# Altium footprint library DXPpcb.PCBLIB: 575 footprints (part 36 of 36)
Each footprint in its own frame and in the unit in brackets; x right, y up, seen from the top. Pads: shape width x height; smd on the part's side, far side on the other; paste and mask are expansions set on the pad; w line width, h text height; cw(c..) or ccw(c..) is an arc to the next point about the centre after c.
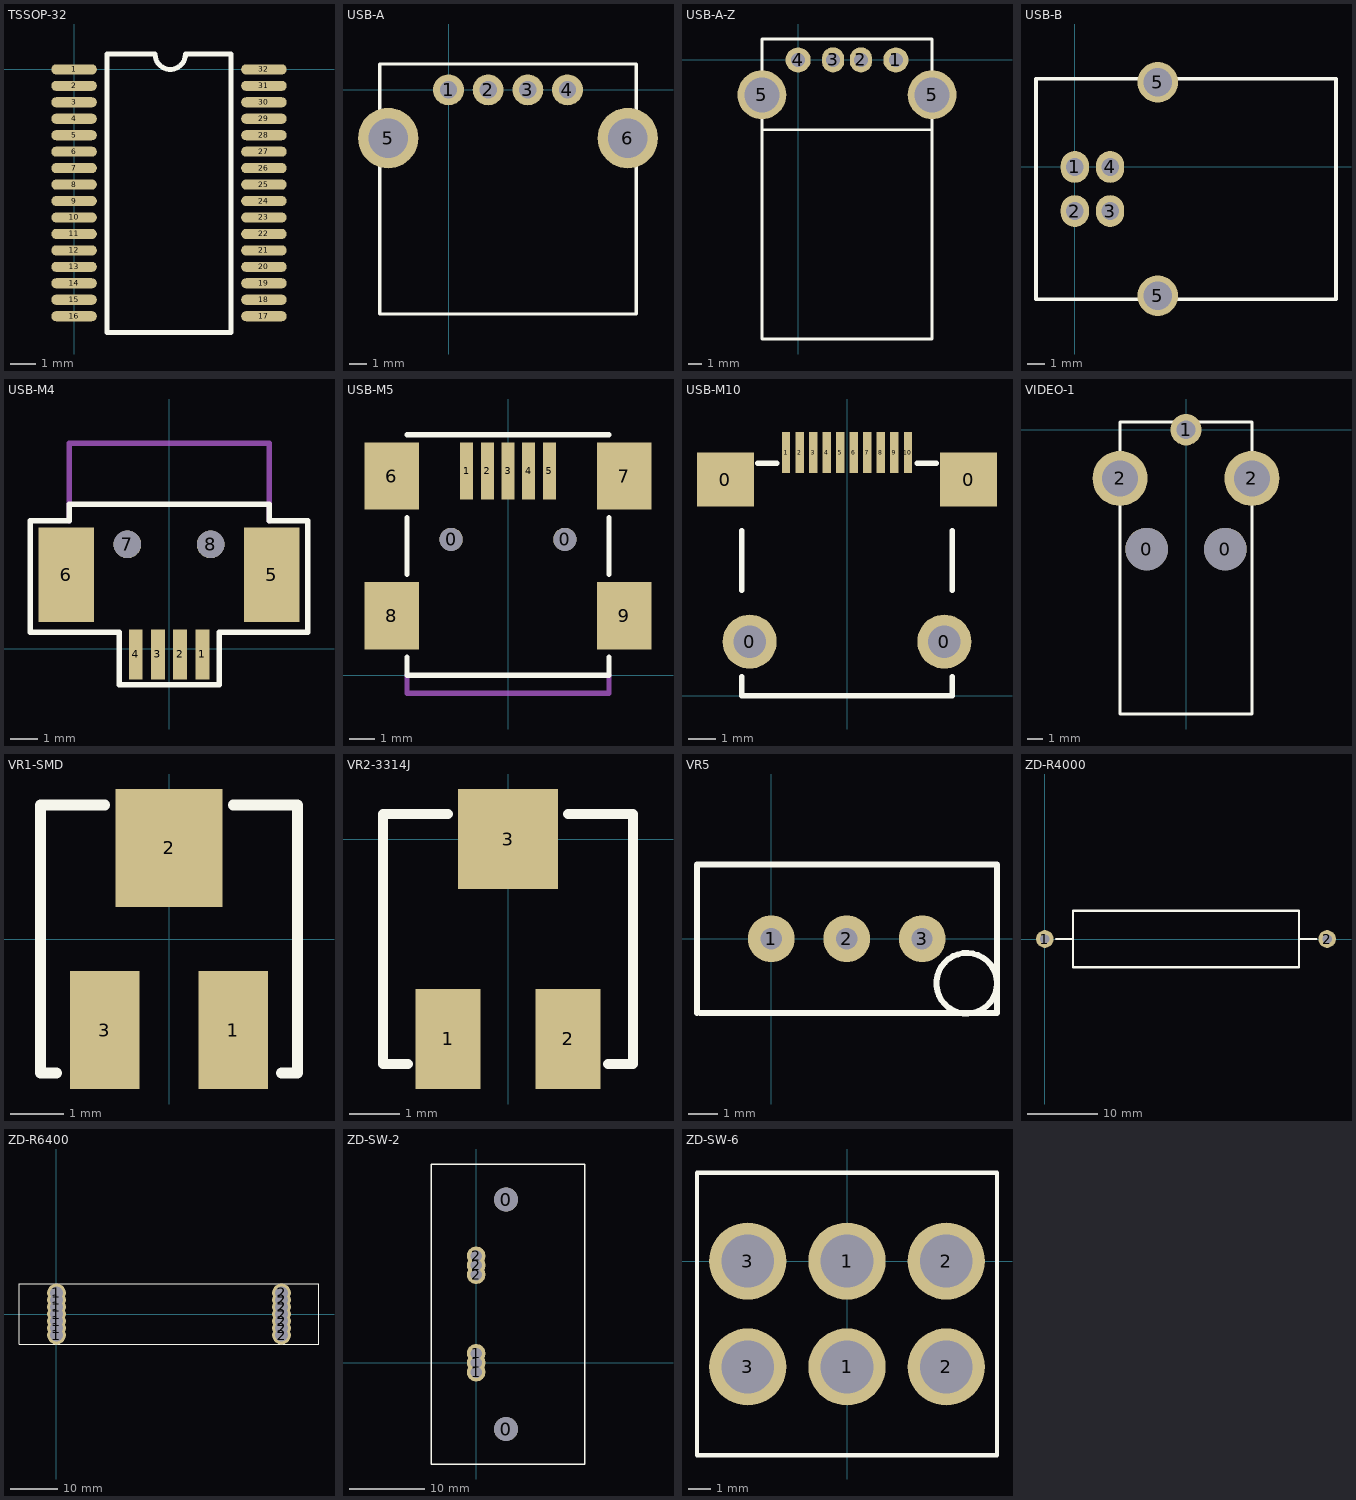
[diagram p35: the footprints below, top view; thin cyan lines are the x and y axes]

## TSSOP-32 [mm]
pads (32):
  oval 1.8x0.4 smd: 1(0,0) 2(0,-0.65) 3(0,-1.3) 4(0,-1.95) 5(0,-2.6) 6(0,-3.25) 7(0,-3.9) 8(0,-4.55) 9(0,-5.2) 10(0,-5.85) 11(0,-6.5) 12(0,-7.15) 13(0,-7.8) 14(0,-8.45) 15(0,-9.1) 16(0,-9.75) 17(7.5,-9.75) 18(7.5,-9.1) 19(7.5,-8.45) 20(7.5,-7.8) 21(7.5,-7.15) 22(7.5,-6.5) 23(7.5,-5.85) 24(7.5,-5.2) 25(7.5,-4.55) 26(7.5,-3.9) 27(7.5,-3.25) 28(7.5,-2.6) 29(7.5,-1.95) 30(7.5,-1.3) 31(7.5,-0.65) 32(7.5,0)
TopOverlay:
  lines w0.2: 1.3,-10.4 6.2,-10.4 6.2,0.6 4.4,0.6 cw(c3.8,0.6) 3.2,0.6 1.3,0.6 1.3,-10.4

## USB-A [mm]
pads (6):
  round 1.8 hole 1: 1(0,0) 2(2.3,0) 3(4.6,0) 4(6.9,0)
  round 3.5 hole 2.3: 5(-3.5,-2.8) 6(10.4,-2.8)
TopOverlay:
  lines w0.2: -4,-13 -4,1.5 10.9,1.5 10.9,-13 -4,-13

## USB-A-Z [mm]
pads (6):
  round 1.8 hole 1: 1(7,0) 4(0,0)
  oval 1.6x1.8 hole 1: 2(4.5,0) 3(2.5,0)
  round 3.5 hole 2.5: 5(-2.6,-2.5) 5(9.6,-2.5)
TopOverlay:
  lines w0.2: -2.6,-5 9.6,-5 ; -2.6,-20 9.6,-20 9.6,1.5 -2.6,1.5 -2.6,-20

## USB-B [mm]
pads (6):
  oval 1.6x1.8 hole 1: 1(0,0) 2(0,-2.5) 3(2,-2.5) 4(2,0)
  round 2.3 hole 1.6: 5(4.7,-7.3) 5(4.7,4.8)
TopOverlay:
  lines w0.2: -2.2,-7.5 -2.2,5 14.8,5 14.8,-7.5 -2.2,-7.5

## USB-M4 [mm]
pads (8):
  rect 0.5x1.8 smd: 1(1.2,-0.2) 2(0.4,-0.2) 3(-0.4,-0.2) 4(-1.2,-0.2)
  rect 2x3.4 smd: 5(3.697,2.658) 6(-3.703,2.658)
  round 1 hole 1: 7(-1.503,3.758) 8(1.497,3.758)
TopOverlay:
  lines w0.2: -5,0.6 -5,4.6 -3.6,4.6 -3.6,5.2 3.6,5.2 3.6,4.6 5,4.6 5,0.6 1.8,0.6 1.8,-1.3 -1.8,-1.3 -1.8,0.6 -5,0.6
Mechanical3:
  lines w0.2: -3.6,4.6 -3.6,7.4 3.6,7.4 3.6,4.6

## USB-M5 [mm]
pads (11):
  round 0.9 hole 0.9: 0(-2.2,5.25) 0(2.2,5.25)
  rect 0.5x2.2 smd: 1(-1.6,7.9) 2(-0.8,7.9) 3(0,7.9) 4(0.8,7.9) 5(1.6,7.9)
  rect 2.1x2.6 smd: 6(-4.5,7.7) 7(4.5,7.7) 8(-4.5,2.3) 9(4.5,2.3)
TopOverlay:
  lines w0.2: -3.9,0.7 -3.9,0 3.9,0 3.9,0.7 ; -3.9,3.9 -3.9,6.1 ; -3.9,9.3 3.9,9.3 ; 3.9,3.9 3.9,6.1
Mechanical3:
  lines w0.2: -3.9,0 -3.9,-0.7 3.9,-0.7 3.9,0

## USB-M10 [mm]
pads (14):
  rect 2.1x2 smd: 0(-4.5,8) 0(4.5,8)
  round 2 hole 1.2: 0(-3.6,2) 0(3.6,2)
  rect 0.3x1.5 smd: 1(-2.25,9) 2(-1.75,9) 3(-1.25,9) 4(-0.75,9) 5(-0.25,9) 6(0.25,9) 7(0.75,9) 8(1.25,9) 9(1.75,9) 10(2.25,9)
TopOverlay:
  lines w0.2: -3.9,0.7 -3.9,0 3.9,0 3.9,0.7 ; -3.9,3.9 -3.9,6.1 ; -3.3,8.6 -2.6,8.6 ; 2.6,8.6 3.3,8.6 ; 3.9,3.9 3.9,6.1

## VIDEO-1 [mm]
pads (5):
  round 2.7 hole 2.7: 0(-2.5,-7.6) 0(2.5,-7.6)
  round 2 hole 1.2: 1(0,0)
  round 3.5 hole 2.3: 2(-4.2,-3.1) 2(4.2,-3.1)
TopOverlay:
  lines w0.2: -4.2,-18.1 4.2,-18.1 4.2,0.5 -4.2,0.5 -4.2,-18.1

## VR1-SMD [mm]
pads (3):
  rect 1.3x2.2 smd: 1(1.2,-1.7) 3(-1.2,-1.7)
  rect 2x2.2 smd: 2(0,1.7)
TopOverlay:
  lines w0.2: -2.1,-2.5 -2.4,-2.5 -2.4,2.5 -1.2,2.5 ; 1.2,2.5 2.4,2.5 2.4,-2.5 2.1,-2.5

## VR2-3314J [mm]
pads (3):
  rect 1.3x2 smd: 1(-1.2,-4) 2(1.2,-4)
  rect 2x2 smd: 3(0,0)
TopOverlay:
  lines w0.2: -2,-4.5 -2.5,-4.5 -2.5,0.5 -1.2,0.5 ; 1.2,0.5 2.5,0.5 2.5,-4.5 2,-4.5

## VR5 [mil]
pads (3):
  round 62 hole 28: 1(0,0) 2(100,0) 3(200,0)
TopOverlay:
  circle w7.87: c259.06,-59.06 r40.15
  lines w7.87: -98.43,-98.43 -98.43,98.43 299.21,98.43 299.21,0 299.21,-98.43 -94.49,-98.43

## ZD-R4000 [mm]
pads (2):
  round 2.5 hole 1.3: 1(0,0) 2(40,0)
TopOverlay:
  lines w0.3: 1.584,0 4,0 ; 36,0 38.5,0 ; 4,-4 4,4 36,4 36,-4 4,-4

## ZD-R6400 [mm]
pads (14):
  round 4 hole 2.8: 1(0,-4.5) 1(0,-3) 1(0,-1.5) 1(0,0) 1(0,1.5) 1(0,3) 1(0,4.5) 2(48,-4.5) 2(48,-3) 2(48,-1.5) 2(48,0) 2(48,1.5) 2(48,3) 2(48,4.5)
TopOverlay:
  lines w0.2: -8,-6.5 56,-6.5 56,6.5 -8,6.5 -8,-6.5

## ZD-SW-2 [mm]
pads (8):
  round 3.2 hole 3.2: 0(4,-8.85) 0(4,21.75)
  round 2.5 hole 1.5: 1(0,-1.25) 1(0,0) 1(0,1.25) 2(0,11.75) 2(0,13) 2(0,14.25)
TopOverlay:
  lines w0.2: -6,-13.5 -6,26.5 14.5,26.5 14.5,-13.5 -6,-13.5

## ZD-SW-6 [mm]
pads (6):
  round 3.5 hole 2.4: 1(0,-4.8) 1(0,0) 2(4.5,-4.8) 2(4.5,0) 3(-4.5,-4.8) 3(-4.5,0)
TopOverlay:
  lines w0.2: -6.8,-8.8 6.8,-8.8 6.8,4 -6.8,4 -6.8,-8.8